# Altium integrated library SMT_Male_Headers_254.IntLib: 1 symbol
Pins are listed as number, name and electrical type; pins without a type are passive.

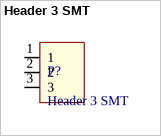
[diagram p0: symbol Header 3 SMT]

## Header 3 SMT
designator P?
footprint PCBComponent_1
pins: 1, 2, 3